# Altium schematic symbol library Converter_DCDC.SchLib: 658 symbols (part 7 of 7)
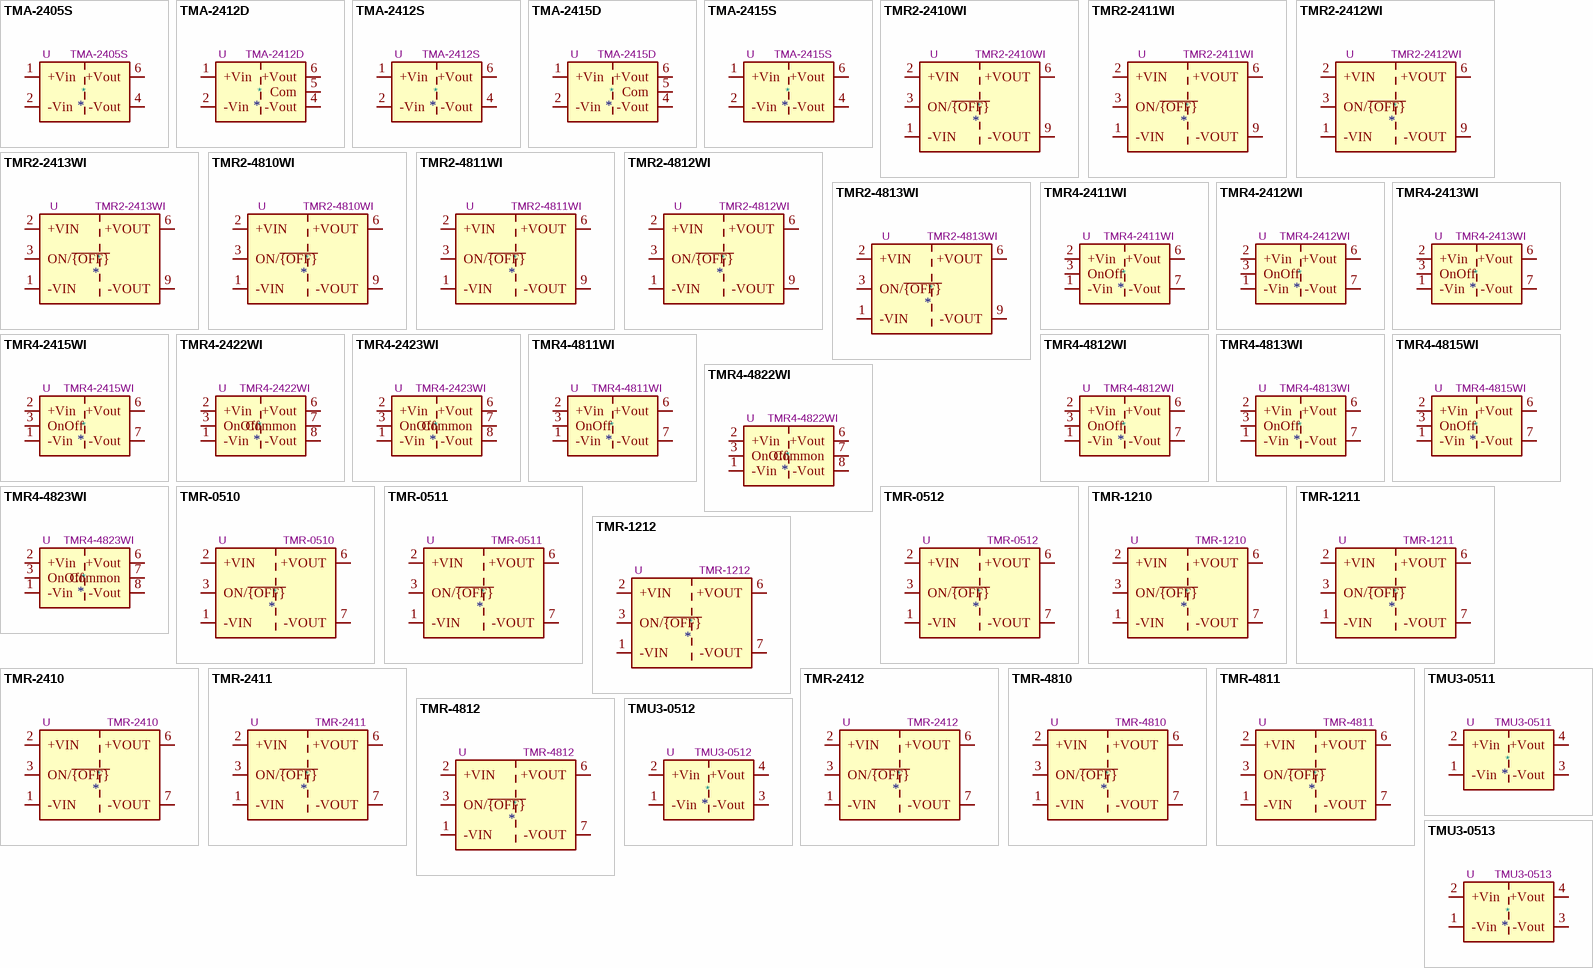
[diagram p22: symbols TMA-2405S to TMU3-0513]

## TMR-2410
designator *  value TMR-2410  Reference: U
ki_keywords: Traco isolated isolation dc-dc converter transformer; ki_description: 500mA Regulated 2W DC/DC converter with 1.5kV isolation, 18V-36V input, 3.3V fixed Output Voltage, SIP-8; ki_fp_filters: Converter*DCDC*TRACO*TMR*xxxx*; Footprint: Converter_DCDC:Converter_DCDC_TRACO_TMR-xxxx_THT; Datasheet: https://www.tracopower.com/products/tmr2.pdf
pins: 1 -VIN, 2 +VIN, 3 ON/~{{OFF}}, 5 NC hidden, 6 +VOUT, 7 -VOUT, 8 NC hidden

## TMR-2411
designator *  value TMR-2411  Reference: U
ki_keywords: Traco isolated isolation dc-dc converter transformer; ki_description: 400mA Regulated 2W DC/DC converter with 1.5kV isolation, 18V-36V input, 5V fixed Output Voltage, SIP-8; ki_fp_filters: Converter*DCDC*TRACO*TMR*xxxx*; Footprint: Converter_DCDC:Converter_DCDC_TRACO_TMR-xxxx_THT; Datasheet: https://www.tracopower.com/products/tmr2.pdf
pins: 1 -VIN, 2 +VIN, 3 ON/~{{OFF}}, 5 NC hidden, 6 +VOUT, 7 -VOUT, 8 NC hidden

## TMR-2412
designator *  value TMR-2412  Reference: U
ki_keywords: Traco isolated isolation dc-dc converter transformer; ki_description: 165mA Regulated 2W DC/DC converter with 1.5kV isolation, 18V-36V input, 12V fixed Output Voltage, SIP-8; ki_fp_filters: Converter*DCDC*TRACO*TMR*xxxx*; Footprint: Converter_DCDC:Converter_DCDC_TRACO_TMR-xxxx_THT; Datasheet: https://www.tracopower.com/products/tmr2.pdf
pins: 1 -VIN, 2 +VIN, 3 ON/~{{OFF}}, 5 NC hidden, 6 +VOUT, 7 -VOUT, 8 NC hidden

## TMR-4810
designator *  value TMR-4810  Reference: U
ki_keywords: Traco isolated isolation dc-dc converter transformer; ki_description: 500mA Regulated 2W DC/DC converter with 1.5kV isolation, 36V-75V input, 3.3V fixed Output Voltage, SIP-8; ki_fp_filters: Converter*DCDC*TRACO*TMR*xxxx*; Footprint: Converter_DCDC:Converter_DCDC_TRACO_TMR-xxxx_THT; Datasheet: https://www.tracopower.com/products/tmr2.pdf
pins: 1 -VIN, 2 +VIN, 3 ON/~{{OFF}}, 5 NC hidden, 6 +VOUT, 7 -VOUT, 8 NC hidden

## TMR-4811
designator *  value TMR-4811  Reference: U
ki_keywords: Traco isolated isolation dc-dc converter transformer; ki_description: 400mA Regulated 2W DC/DC converter with 1.5kV isolation, 36V-75V input, 5V fixed Output Voltage, SIP-8; ki_fp_filters: Converter*DCDC*TRACO*TMR*xxxx*; Footprint: Converter_DCDC:Converter_DCDC_TRACO_TMR-xxxx_THT; Datasheet: https://www.tracopower.com/products/tmr2.pdf
pins: 1 -VIN, 2 +VIN, 3 ON/~{{OFF}}, 5 NC hidden, 6 +VOUT, 7 -VOUT, 8 NC hidden

## TMR-4812
designator *  value TMR-4812  Reference: U
ki_keywords: Traco isolated isolation dc-dc converter transformer; ki_description: 165mA Regulated 2W DC/DC converter with 1.5kV isolation, 36V-75V input, 12V fixed Output Voltage, SIP-8; ki_fp_filters: Converter*DCDC*TRACO*TMR*xxxx*; Footprint: Converter_DCDC:Converter_DCDC_TRACO_TMR-xxxx_THT; Datasheet: https://www.tracopower.com/products/tmr2.pdf
pins: 1 -VIN, 2 +VIN, 3 ON/~{{OFF}}, 5 NC hidden, 6 +VOUT, 7 -VOUT, 8 NC hidden

## TMU3-0511
designator *  value TMU3-0511  Reference: U
ki_keywords: Traco isolated isolation dc-dc converter not-regulated non-regulated single 3W; ki_description: 3W DC/DC converter unregulated, 4.5-5.5V input, 5V output voltage, 600mA output, 1.5kVDC isolation, SIP-4; ki_fp_filters: Converter*DCDC*TRACO*TMU3*05xx*12xx*THT*; Footprint: Converter_DCDC:Converter_DCDC_TRACO_TMU3-05xx_12xx_THT; Datasheet: https://www.tracopower.com/products/tmu3.pdf
pins: 1 -Vin, 2 +Vin, 3 -Vout, 4 +Vout

## TMU3-0512
designator *  value TMU3-0512  Reference: U
ki_keywords: Traco isolated isolation dc-dc converter not-regulated non-regulated single 3W; ki_description: 3W DC/DC converter unregulated, 4.5-5.5V input, 12V output voltage, 250mA output, 1.5kVDC isolation, SIP-4; ki_fp_filters: Converter*DCDC*TRACO*TMU3*05xx*12xx*THT*; Footprint: Converter_DCDC:Converter_DCDC_TRACO_TMU3-05xx_12xx_THT; Datasheet: https://www.tracopower.com/products/tmu3.pdf
pins: 1 -Vin, 2 +Vin, 3 -Vout, 4 +Vout

## TMU3-0513
designator *  value TMU3-0513  Reference: U
ki_keywords: Traco isolated isolation dc-dc converter not-regulated non-regulated single 3W; ki_description: 3W DC/DC converter unregulated, 4.5-5.5V input, 15V output voltage, 200mA output, 1.5kVDC isolation, SIP-4; ki_fp_filters: Converter*DCDC*TRACO*TMU3*05xx*12xx*THT*; Footprint: Converter_DCDC:Converter_DCDC_TRACO_TMU3-05xx_12xx_THT; Datasheet: https://www.tracopower.com/products/tmu3.pdf
pins: 1 -Vin, 2 +Vin, 3 -Vout, 4 +Vout

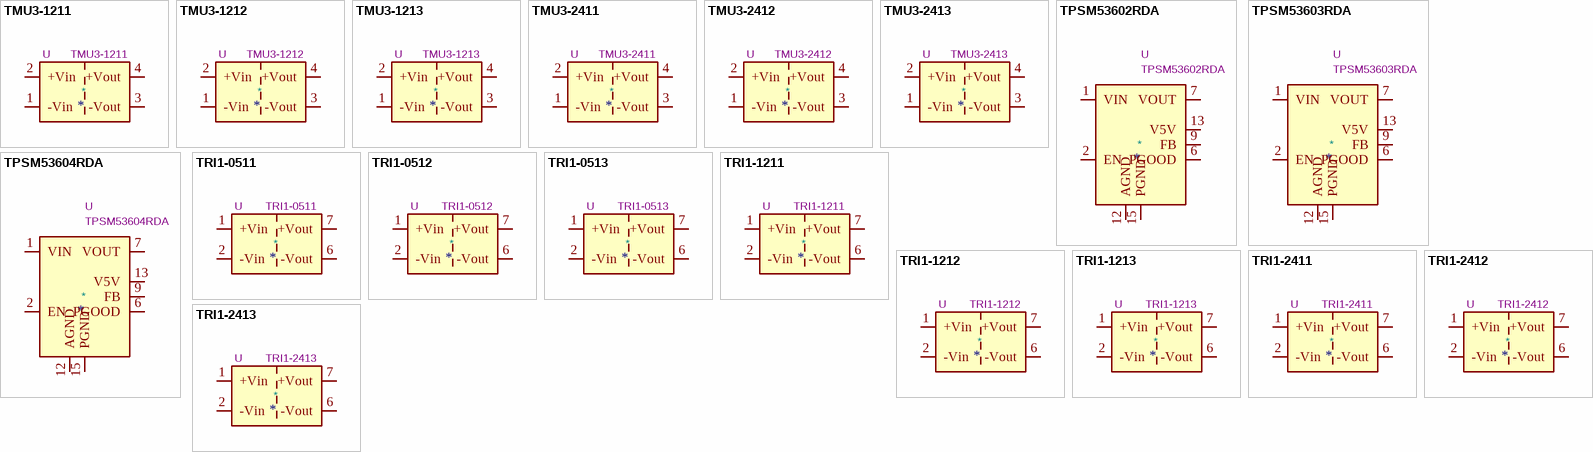
[diagram p16: symbols TMU3-1211 to TRI1-2413]

## TMU3-1211
designator *  value TMU3-1211  Reference: U
ki_keywords: Traco isolated isolation dc-dc converter not-regulated non-regulated single 3W; ki_description: 3W DC/DC converter unregulated, 10.8-13.2V input, 5V output voltage, 600mA output, 1.5kVDC isolation, SIP-4; ki_fp_filters: Converter*DCDC*TRACO*TMU3*05xx*12xx*THT*; Footprint: Converter_DCDC:Converter_DCDC_TRACO_TMU3-05xx_12xx_THT; Datasheet: https://www.tracopower.com/products/tmu3.pdf
pins: 1 -Vin, 2 +Vin, 3 -Vout, 4 +Vout

## TMU3-1212
designator *  value TMU3-1212  Reference: U
ki_keywords: Traco isolated isolation dc-dc converter not-regulated non-regulated single 3W; ki_description: 3W DC/DC converter unregulated, 10.8-13.2V input, 12V output voltage, 250mA output, 1.5kVDC isolation, SIP-4; ki_fp_filters: Converter*DCDC*TRACO*TMU3*05xx*12xx*THT*; Footprint: Converter_DCDC:Converter_DCDC_TRACO_TMU3-05xx_12xx_THT; Datasheet: https://www.tracopower.com/products/tmu3.pdf
pins: 1 -Vin, 2 +Vin, 3 -Vout, 4 +Vout

## TMU3-1213
designator *  value TMU3-1213  Reference: U
ki_keywords: Traco isolated isolation dc-dc converter not-regulated non-regulated single 3W; ki_description: 3W DC/DC converter unregulated, 10.8-13.2V input, 15V output voltage, 200mA output, 1.5kVDC isolation, SIP-4; ki_fp_filters: Converter*DCDC*TRACO*TMU3*05xx*12xx*THT*; Footprint: Converter_DCDC:Converter_DCDC_TRACO_TMU3-05xx_12xx_THT; Datasheet: https://www.tracopower.com/products/tmu3.pdf
pins: 1 -Vin, 2 +Vin, 3 -Vout, 4 +Vout

## TMU3-2411
designator *  value TMU3-2411  Reference: U
ki_keywords: Traco isolated isolation dc-dc converter not-regulated non-regulated single 3W; ki_description: 3W DC/DC converter unregulated, 21.6-26.4V input, 5V output voltage, 600mA output, 1.5kVDC isolation, SIP-4; ki_fp_filters: Converter*DCDC*TRACO*TMU3*24xx*THT*; Footprint: Converter_DCDC:Converter_DCDC_TRACO_TMU3-24xx_THT; Datasheet: https://www.tracopower.com/products/tmu3.pdf
pins: 1 -Vin, 2 +Vin, 3 -Vout, 4 +Vout

## TMU3-2412
designator *  value TMU3-2412  Reference: U
ki_keywords: Traco isolated isolation dc-dc converter not-regulated non-regulated single 3W; ki_description: 3W DC/DC converter unregulated, 21.6-26.4V input, 12V output voltage, 250mA output, 1.5kVDC isolation, SIP-4; ki_fp_filters: Converter*DCDC*TRACO*TMU3*24xx*THT*; Footprint: Converter_DCDC:Converter_DCDC_TRACO_TMU3-24xx_THT; Datasheet: https://www.tracopower.com/products/tmu3.pdf
pins: 1 -Vin, 2 +Vin, 3 -Vout, 4 +Vout

## TMU3-2413
designator *  value TMU3-2413  Reference: U
ki_keywords: Traco isolated isolation dc-dc converter not-regulated non-regulated single 3W; ki_description: 3W DC/DC converter unregulated, 21.6-26.4V input, 15V output voltage, 200mA output, 1.5kVDC isolation, SIP-4; ki_fp_filters: Converter*DCDC*TRACO*TMU3*24xx*THT*; Footprint: Converter_DCDC:Converter_DCDC_TRACO_TMU3-24xx_THT; Datasheet: https://www.tracopower.com/products/tmu3.pdf
pins: 1 -Vin, 2 +Vin, 3 -Vout, 4 +Vout

## TPSM53602RDA
designator *  value TPSM53602RDA  Reference: U
ki_keywords: step down DCDC converter regulator; ki_description: 36-V, 2A input, stepdown, DC/DC converter, Texas B3QFN-14; ki_fp_filters: Texas*B3QFN*1EP*5x5.5mm*P0.65mm*; Footprint: Package_DFN_QFN:Texas_B3QFN-14-1EP_5x5.5mm_P0.65mm_ThermalVia; Datasheet: https://www.ti.com/lit/ds/symlink/tpsm53602.pdf
pins: 1 VIN, 2 EN, 3 PGND hidden, 4 DNC hidden, 5 DNC hidden, 6 PGOOD, 7 VOUT, 8 VOUT hidden, 9 FB, 10 PGND hidden, 11 PGND hidden, 12 AGND, 13 V5V, 14 VIN hidden, 15 PGND

## TPSM53603RDA
designator *  value TPSM53603RDA  Reference: U
ki_keywords: step down DCDC converter regulator; ki_description: 36-V, 3A input, stepdown, DC/DC converter, Texas B3QFN-14; ki_fp_filters: Texas*B3QFN*1EP*5x5.5mm*P0.65mm*; Footprint: Package_DFN_QFN:Texas_B3QFN-14-1EP_5x5.5mm_P0.65mm_ThermalVia; Datasheet: https://www.ti.com/lit/ds/symlink/tpsm53603.pdf
pins: 1 VIN, 2 EN, 3 PGND hidden, 4 DNC hidden, 5 DNC hidden, 6 PGOOD, 7 VOUT, 8 VOUT hidden, 9 FB, 10 PGND hidden, 11 PGND hidden, 12 AGND, 13 V5V, 14 VIN hidden, 15 PGND

## TPSM53604RDA
designator *  value TPSM53604RDA  Reference: U
ki_keywords: step down DCDC converter regulator; ki_description: 36-V, 4A input, stepdown, DC/DC converter, Texas B3QFN-14; ki_fp_filters: Texas*B3QFN*1EP*5x5.5mm*P0.65mm*; Footprint: Package_DFN_QFN:Texas_B3QFN-14-1EP_5x5.5mm_P0.65mm_ThermalVia; Datasheet: https://www.ti.com/lit/ds/symlink/tpsm53604.pdf
pins: 1 VIN, 2 EN, 3 PGND hidden, 4 DNC hidden, 5 DNC hidden, 6 PGOOD, 7 VOUT, 8 VOUT hidden, 9 FB, 10 PGND hidden, 11 PGND hidden, 12 AGND, 13 V5V, 14 VIN hidden, 15 PGND

## TRI1-0511
designator *  value TRI1-0511  Reference: U
ki_keywords: Traco isolated isolation dc-dc converter not-regulated non-regulated single 1W; ki_description: 1W DC/DC converter unregulated, 4.5-5.5V input, 5V fixed output voltage, 200mA output, 3.0kVDC isolation, SIP-7; ki_fp_filters: Converter*DCDC*TRACO*TRI1*; Footprint: Converter_DCDC:Converter_DCDC_TRACO_TRI1-xxxx_THT; Datasheet: https://www.tracopower.com/products/tri1.pdf
pins: 1 +Vin, 2 -Vin, 6 -Vout, 7 +Vout

## TRI1-0512
designator *  value TRI1-0512  Reference: U
ki_keywords: Traco isolated isolation dc-dc converter not-regulated non-regulated single 1W; ki_description: 1W DC/DC converter unregulated, 4.5-5.5V input, 12V fixed output voltage, 84mA output, 3.0kVDC isolation, SIP-7; ki_fp_filters: Converter*DCDC*TRACO*TRI1*; Footprint: Converter_DCDC:Converter_DCDC_TRACO_TRI1-xxxx_THT; Datasheet: https://www.tracopower.com/products/tri1.pdf
pins: 1 +Vin, 2 -Vin, 6 -Vout, 7 +Vout

## TRI1-0513
designator *  value TRI1-0513  Reference: U
ki_keywords: Traco isolated isolation dc-dc converter not-regulated non-regulated single 1W; ki_description: 1W DC/DC converter unregulated, 4.5-5.5V input, 15V fixed output voltage, 68mA output, 3.0kVDC isolation, SIP-7; ki_fp_filters: Converter*DCDC*TRACO*TRI1*; Footprint: Converter_DCDC:Converter_DCDC_TRACO_TRI1-xxxx_THT; Datasheet: https://www.tracopower.com/products/tri1.pdf
pins: 1 +Vin, 2 -Vin, 6 -Vout, 7 +Vout

## TRI1-1211
designator *  value TRI1-1211  Reference: U
ki_keywords: Traco isolated isolation dc-dc converter not-regulated non-regulated single 1W; ki_description: 1W DC/DC converter unregulated, 10.8-13.2V input, 5V fixed output voltage, 200mA output, 3.0kVDC isolation, SIP-7; ki_fp_filters: Converter*DCDC*TRACO*TRI1*; Footprint: Converter_DCDC:Converter_DCDC_TRACO_TRI1-xxxx_THT; Datasheet: https://www.tracopower.com/products/tri1.pdf
pins: 1 +Vin, 2 -Vin, 6 -Vout, 7 +Vout

## TRI1-1212
designator *  value TRI1-1212  Reference: U
ki_keywords: Traco isolated isolation dc-dc converter not-regulated non-regulated single 1W; ki_description: 1W DC/DC converter unregulated, 10.8-13.2V input, 12V fixed output voltage, 84mA output, 3.0kVDC isolation, SIP-7; ki_fp_filters: Converter*DCDC*TRACO*TRI1*; Footprint: Converter_DCDC:Converter_DCDC_TRACO_TRI1-xxxx_THT; Datasheet: https://www.tracopower.com/products/tri1.pdf
pins: 1 +Vin, 2 -Vin, 6 -Vout, 7 +Vout

## TRI1-1213
designator *  value TRI1-1213  Reference: U
ki_keywords: Traco isolated isolation dc-dc converter not-regulated non-regulated single 1W; ki_description: 1W DC/DC converter unregulated, 10.8-13.2V input, 15V fixed output voltage, 68mA output, 3.0kVDC isolation, SIP-7; ki_fp_filters: Converter*DCDC*TRACO*TRI1*; Footprint: Converter_DCDC:Converter_DCDC_TRACO_TRI1-xxxx_THT; Datasheet: https://www.tracopower.com/products/tri1.pdf
pins: 1 +Vin, 2 -Vin, 6 -Vout, 7 +Vout

## TRI1-2411
designator *  value TRI1-2411  Reference: U
ki_keywords: Traco isolated isolation dc-dc converter not-regulated non-regulated single 1W; ki_description: 1W DC/DC converter unregulated, 21.6-26.4V input, 5V fixed output voltage, 200mA output, 3.0kVDC isolation, SIP-7; ki_fp_filters: Converter*DCDC*TRACO*TRI1*; Footprint: Converter_DCDC:Converter_DCDC_TRACO_TRI1-xxxx_THT; Datasheet: https://www.tracopower.com/products/tri1.pdf
pins: 1 +Vin, 2 -Vin, 6 -Vout, 7 +Vout

## TRI1-2412
designator *  value TRI1-2412  Reference: U
ki_keywords: Traco isolated isolation dc-dc converter not-regulated non-regulated single 1W; ki_description: 1W DC/DC converter unregulated, 21.6-26.4V input, 12V fixed output voltage, 84mA output, 3.0kVDC isolation, SIP-7; ki_fp_filters: Converter*DCDC*TRACO*TRI1*; Footprint: Converter_DCDC:Converter_DCDC_TRACO_TRI1-xxxx_THT; Datasheet: https://www.tracopower.com/products/tri1.pdf
pins: 1 +Vin, 2 -Vin, 6 -Vout, 7 +Vout

## TRI1-2413
designator *  value TRI1-2413  Reference: U
ki_keywords: Traco isolated isolation dc-dc converter not-regulated non-regulated single 1W; ki_description: 1W DC/DC converter unregulated, 21.6-26.4V input, 15V fixed output voltage, 68mA output, 3.0kVDC isolation, SIP-7; ki_fp_filters: Converter*DCDC*TRACO*TRI1*; Footprint: Converter_DCDC:Converter_DCDC_TRACO_TRI1-xxxx_THT; Datasheet: https://www.tracopower.com/products/tri1.pdf
pins: 1 +Vin, 2 -Vin, 6 -Vout, 7 +Vout